# Altium schematic symbol library tdk.SchLib: 2 symbols
Pins are listed as number, name and electrical type; pins without a type are passive.

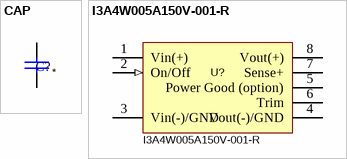
[diagram p0: symbols CAP to I3A4W005A150V-001-R]

## CAP
designator C?  (value not drawn)
Tcr: *; Tolerance: *; MFG: *; MPN: *; Tr: *; Voltage: *; Power: *; Qual: *; Value: *
pins: 1, 2

## I3A4W005A150V-001-R
designator U?
DC DC CONVERTER 5-30V 100W; MFG: TDK; MPN: I3A4W005A150V-001-R
footprint I3A4W005A150V-001-R
pins: 1 Vin(+) (power), 2 On/Off (in), 3 Vin(-)/GND (power), 4 Vout(-)/GND (power), 5 Power Good (option), 6 Trim, 7 Sense+, 8 Vout(+) (power)